# EAGLE library part SN74LVC2T45 (library pixhawk2-import)
DUAL-BIT DUAL-SUPPLY BUS TRANSCEIVER WITH CONFIGURABLE VOLTAGE TRANSLATION AND 3-STATE OUTPUTS
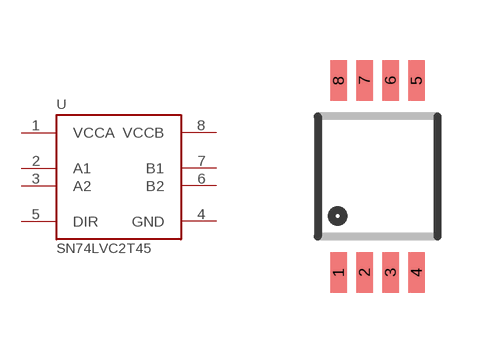
[diagram p5: symbol with the pads of MSOP-8; footprint MSOP-8]

Designator prefix U

## SN74LVC2T45  [MSOP-8]
1  VCCA  sup
2  A1
3  A2
4  GND  sup
5  DIR  in
6  B2
7  B1
8  VCCB  sup

## Footprint MSOP-8 (pad centres in mm)
smd 0.41 x 1.02: 1 -0.975,-2.4; 2 -0.325,-2.4; 3 0.325,-2.4; 4 0.975,-2.4; 5 0.975,2.4; 6 0.325,2.4; 7 -0.325,2.4; 8 -0.975,2.4